# Altium schematic symbol library MCP2515-I_ST.SchLib: 1 symbol
Pins are listed as number, name and electrical type; pins without a type are passive.

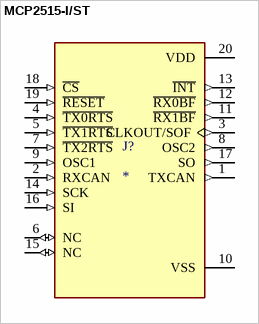
[diagram p0: symbol MCP2515-I/ST]

## MCP2515-I/ST
designator J?
CAN 1Mbps Sleep/Standby 3.3V/5V 20-Pin TSSOP Tube; MF: Microchip Technology; MP: MCP2515-I/ST; Package: TSSOP-20 Microchip; Value: *; Availability: In Stock; SnapEDA_Link: https://www.snapeda.com/parts/MCP2515-I/ST/Microchip/view-part/?ref=snap; Price: None; Check_prices: https://www.snapeda.com/parts/MCP2515-I/ST/Microchip/view-part/?ref=eda
footprint SOP65P640X110-20N
pins: 1 TXCAN (out), 2 RXCAN (in), 3 CLKOUT/SOF (out), 4 ~{TX0RTS} (in), 5 ~{TX1RTS} (in), 6 NC (io), 7 ~{TX2RTS} (in), 8 OSC2 (out), 9 OSC1 (in), 10 VSS (power), 11 ~{RX1BF} (out), 12 ~{RX0BF} (out), 13 ~{INT} (out), 14 SCK (in), 15 NC (io), 16 SI (in), 17 SO (out), 18 ~{CS} (in), 19 ~{RESET} (in), 20 VDD (power)